# EAGLE library part 1324ПП3 (library microwave)
АЕЯР.431000.760–03 ТУ 1324ПП3 - СВЧ МИС пассивного умножителя частоты на 2 в диапазоне рабочих частот от 1 до 3,3 ГГц, согласованная по входу и выходу с линией с волновым сопротивлением 50 Ом. Достоинства: ► Диапазон входных частот 1,0-3,3 ГГц ► Диапазон выходных частот 2,0-6,6 ГГц ► Диапазон рабочих температур -60…+85 °С ► Подавление гармоник 32 дБ Электрические параметры при Rн=50 Ом, Т=25 °С, если не указано иного. Параметр, единица измерения Условия 1324 ПП3У мин. тип. макс. Диапазон рабочих частот по входу, ГГц Рвх=63мВт(18dBm) 1,1-2,7 1,0-3,3 Диапазон рабочих частот по выходу, ГГц Рвх=63мВт(18dBm) 2,2-5,4 2,0-6,6 Диапазон уровня входной мощности, дБм fвх=2,5 ГГц +15-18 Потери преобразования, дБ fвх=2 ГГц 18,5 23 Подавление гармоник на выходе по отношению к входной мощности, дБ fвх=2 ГГц 32 Диапазон рабочих температур, °С -60 +85 Входное и выходное сопротивление по постоянному току, Ом 6 9 КСВ по входу fвх=1,3 ГГц 2,0 КСВ по выходу fвх=1,3 ГГц 1,5 Тепловое сопротивление «переход-среда», °С/Вт Корпус 5140.8-АНЗ 100 Производитель: ОАО «НПП «ПУЛЬСАР», г. Москва.
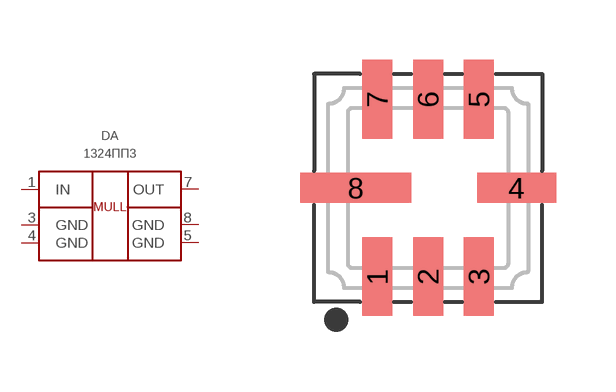
[diagram p17: symbol with the pads of 5140.8-АН3; footprint 5140.8-АН3]

Designator prefix DA

## 1324ПП3У  [5140.8-АН3]
1  IN  in
3  GND  pwr
4  GND  pwr
5  GND  pwr
7  OUT  out
8  GND  pwr

## Footprint 5140.8-АН3 (pad centres in mm)
smd 0.75 x 1.97: 1 -1.27,-2.215; 2 0,-2.215; 3 1.27,-2.215; 5 1.27,2.215; 6 0,2.215; 7 -1.27,2.215
smd 1.97 x 0.75: 4 2.215,0
smd 2.78 x 0.75: 8 -1.81,0